# Altium schematic symbol library Capacitors.SchLib: 229 symbols (part 2 of 2)
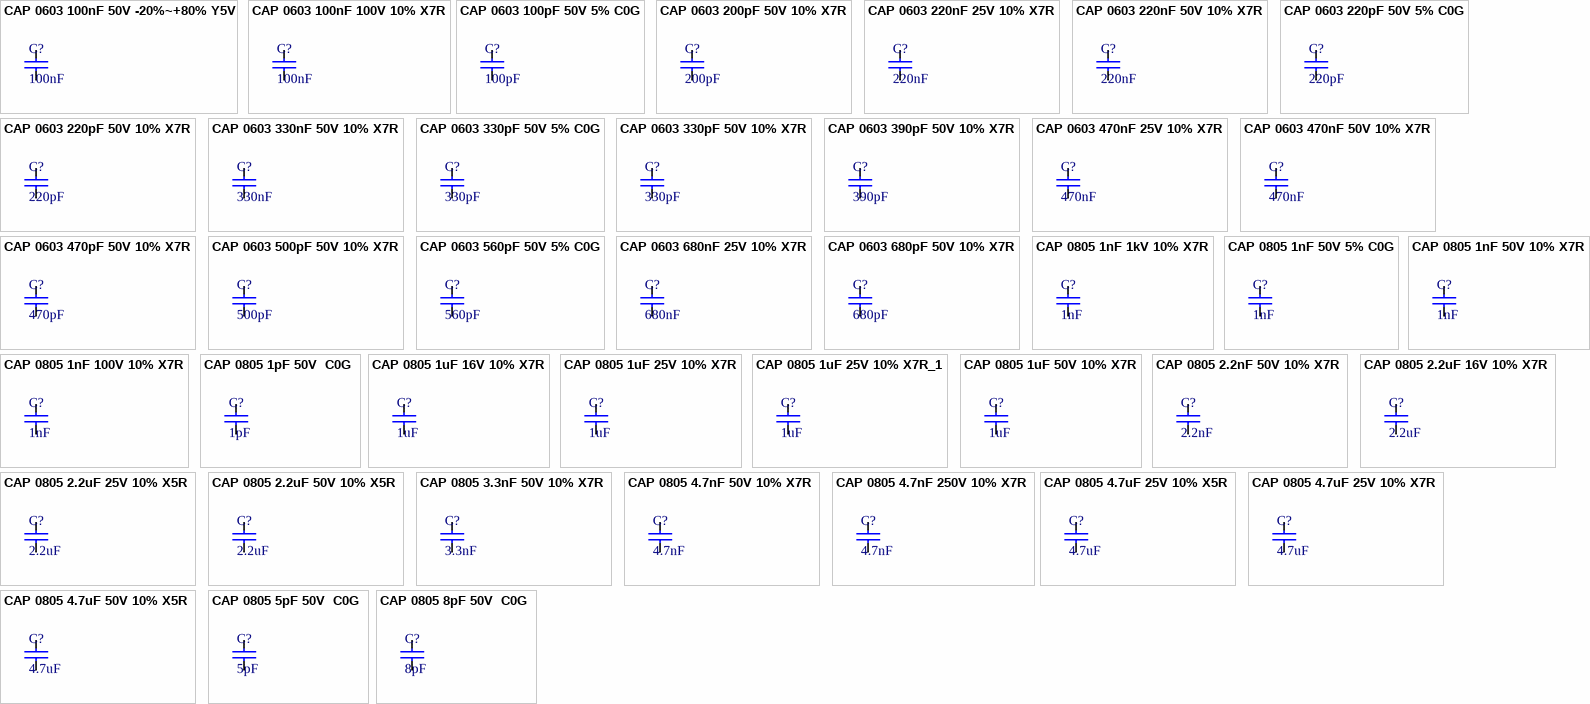
[diagram p6: symbols CAP 0603 100nF 50V -20%~+80% Y5V to CAP 0805 8pF 50V  C0G]

## CAP 0805 1uF 25V 10% X7R_1
designator C?, comment 1uF
1uF 10% 25V Ceramic Capacitor X7R 0805; Manufacturer: FOJAN; Manufacturer Part Number: FCC0805B105K250FT; Supplier: LCSC; Supplier Part Number: C7467040; Capacitance: 1uF; Tolerance: 10%; Voltage Rating: 25V; Temperature Coefficient: X7R
footprint CAP Ceramic SMD 0805
pins: 1, 2

## CAP 0805 1uF 50V 10% X7R
designator C?, comment 1uF
1uF 10% 50V Ceramic Capacitor X7R 0805; Manufacturer: FOJAN; Manufacturer Part Number: FCC0805B105K500FT; Supplier: LCSC; Supplier Part Number: C5137478; Capacitance: 1uF; Tolerance: 10%; Voltage Rating: 50V; Temperature Coefficient: X7R
footprint CAP Ceramic SMD 0805
pins: 1, 2

## CAP 0805 2.2nF 50V 10% X7R
designator C?, comment 2.2nF
2.2nF 10% 50V Ceramic Capacitor X7R 0805; Manufacturer: FOJAN; Manufacturer Part Number: FCC0805B222K500DT; Supplier: LCSC; Supplier Part Number: C5137580; Capacitance: 2.2nF; Tolerance: 10%; Voltage Rating: 50V; Temperature Coefficient: X7R
footprint CAP Ceramic SMD 0805
pins: 1, 2

## CAP 0805 2.2uF 16V 10% X7R
designator C?, comment 2.2uF
2.2uF 10% 16V Ceramic Capacitor X7R 0805; Manufacturer: FOJAN; Manufacturer Part Number: FCC0805B225K160FT; Supplier: LCSC; Supplier Part Number: C5137599; Capacitance: 2.2uF; Tolerance: 10%; Voltage Rating: 16V; Temperature Coefficient: X7R
footprint CAP Ceramic SMD 0805
pins: 1, 2

## CAP 0805 2.2uF 25V 10% X5R
designator C?, comment 2.2uF
2.2uF 10% 25V Ceramic Capacitor X5R 0805; Manufacturer: FOJAN; Manufacturer Part Number: FCC0805X225K250FT; Supplier: LCSC; Supplier Part Number: C5137595; Capacitance: 2.2uF; Tolerance: 10%; Voltage Rating: 25V; Temperature Coefficient: X5R
footprint CAP Ceramic SMD 0805
pins: 1, 2

## CAP 0805 2.2uF 50V 10% X5R
designator C?, comment 2.2uF
50V 2.2uF X5R 10% 0805 Ceramic Capacitors RoHS; Manufacturer: FOJAN; Manufacturer Part Number: FCC0805X225K500FT; Supplier: LCSC; Supplier Part Number: C7467053; Capacitance: 2.2uF; Tolerance: 10%; Voltage Rating: 50V; Temperature Coefficient: X5R
footprint CAP Ceramic SMD 0805
pins: 1, 2

## CAP 0805 3.3nF 50V 10% X7R
designator C?, comment 3.3nF
3.3nF 10% 50V Ceramic Capacitor X7R 0805; Manufacturer: FOJAN; Manufacturer Part Number: FCC0805B332K500DT; Supplier: LCSC; Supplier Part Number: C7467177; Capacitance: 3.3nF; Tolerance: 10%; Voltage Rating: 50V; Temperature Coefficient: X7R
footprint CAP Ceramic SMD 0805
pins: 1, 2

## CAP 0805 4.7nF 50V 10% X7R
designator C?, comment 4.7nF
4.7nF 10% 50V Ceramic Capacitor X7R 0805; Manufacturer: FOJAN; Manufacturer Part Number: FCC0805B472K500DT; Supplier: LCSC; Supplier Part Number: C5137634; Capacitance: 4.7nF; Tolerance: 10%; Voltage Rating: 50V; Temperature Coefficient: X7R
footprint CAP Ceramic SMD 0805
pins: 1, 2

## CAP 0805 4.7nF 250V 10% X7R
designator C?, comment 4.7nF
4.7nF 10% 250V Ceramic Capacitor X7R 0805; Manufacturer: FOJAN; Manufacturer Part Number: FCC0805B472K251DT; Supplier: LCSC; Supplier Part Number: C7419431; Capacitance: 4.7nF; Tolerance: 10%; Voltage Rating: 250V; Temperature Coefficient: X7R
footprint CAP Ceramic SMD 0805
pins: 1, 2

## CAP 0805 4.7uF 25V 10% X5R
designator C?, comment 4.7uF
4.7uF 10% 25V Ceramic Capacitor X5R 0805; Manufacturer: FOJAN; Manufacturer Part Number: FCC0805X475K250FT; Supplier: LCSC; Supplier Part Number: C5137571; Capacitance: 4.7uF; Tolerance: 10%; Voltage Rating: 25V; Temperature Coefficient: X5R
footprint CAP Ceramic SMD 0805
pins: 1, 2

## CAP 0805 4.7uF 25V 10% X7R
designator C?, comment 4.7uF
4.7uF 10% 25V Ceramic Capacitor X7R 0805; Manufacturer: FOJAN; Manufacturer Part Number: FCC0805B475K250FT; Supplier: LCSC; Supplier Part Number: C5137649; Capacitance: 4.7uF; Tolerance: 10%; Voltage Rating: 25V; Temperature Coefficient: X7R
footprint CAP Ceramic SMD 0805
pins: 1, 2

## CAP 0805 4.7uF 50V 10% X5R
designator C?, comment 4.7uF
4.7uF 10% 50V Ceramic Capacitor X5R 0805; Manufacturer: FOJAN; Manufacturer Part Number: FCC0805X475K500FT; Supplier: LCSC; Supplier Part Number: C7467127; Capacitance: 4.7uF; Tolerance: 10%; Voltage Rating: 50V; Temperature Coefficient: X5R
footprint CAP Ceramic SMD 0805
pins: 1, 2

## CAP 0805 5pF 50V  C0G
designator C?, comment 5pF
5pF 50V Ceramic Capacitor C0G 0805; Manufacturer: FOJAN; Manufacturer Part Number: FCC0805N5R0C500BT; Supplier: LCSC; Supplier Part Number: C7419433; Capacitance: 5pF; Voltage Rating: 50V; Temperature Coefficient: C0G
footprint CAP Ceramic SMD 0805
pins: 1, 2

## CAP 0805 8pF 50V  C0G
designator C?, comment 8pF
8pF 50V Ceramic Capacitor C0G 0805; Manufacturer: FOJAN; Manufacturer Part Number: FCC0805N8R0C500BT; Supplier: LCSC; Supplier Part Number: C7419434; Capacitance: 8pF; Voltage Rating: 50V; Temperature Coefficient: C0G
footprint CAP Ceramic SMD 0805
pins: 1, 2

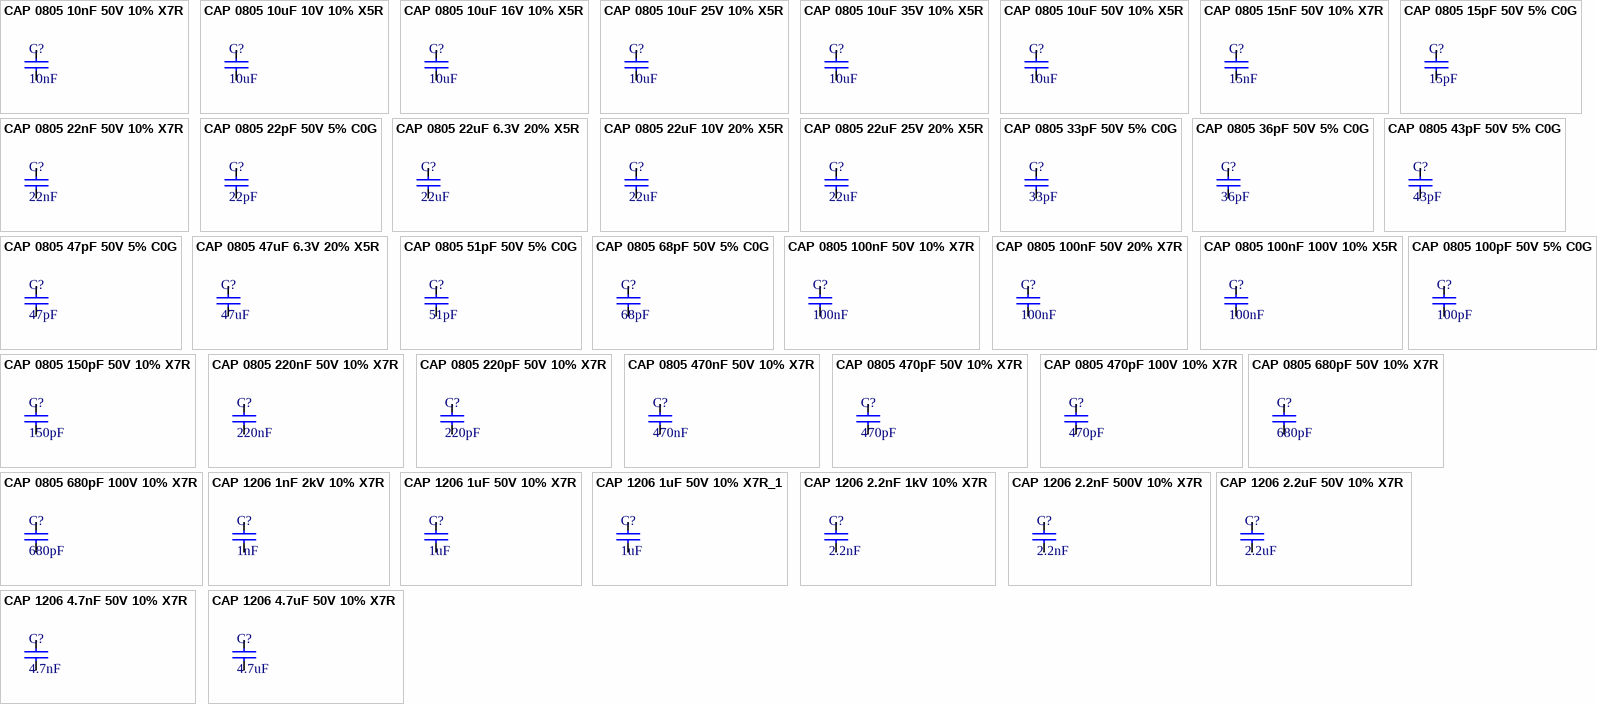
[diagram p4: symbols CAP 0805 10nF 50V 10% X7R to CAP 1206 4.7uF 50V 10% X7R]

## CAP 0805 10nF 50V 10% X7R
designator C?, comment 10nF
10nF 10% 50V Ceramic Capacitor X7R 0805; Manufacturer: FOJAN; Manufacturer Part Number: FCC0805B103K500DT; Supplier: LCSC; Supplier Part Number: C5137493; Capacitance: 10nF; Tolerance: 10%; Voltage Rating: 50V; Temperature Coefficient: X7R
footprint CAP Ceramic SMD 0805
pins: 1, 2

## CAP 0805 10uF 10V 10% X5R
designator C?, comment 10uF
10uF 10% 10V Ceramic Capacitor X5R 0805; Manufacturer: FOJAN; Manufacturer Part Number: FCC0805X106K100FT; Supplier: LCSC; Supplier Part Number: C5137471; Capacitance: 10uF; Tolerance: 10%; Voltage Rating: 10V; Temperature Coefficient: X5R
footprint CAP Ceramic SMD 0805
pins: 1, 2

## CAP 0805 10uF 16V 10% X5R
designator C?, comment 10uF
10uF 10% 16V Ceramic Capacitor X5R 0805; Manufacturer: FOJAN; Manufacturer Part Number: FCC0805X106K160FT; Supplier: LCSC; Supplier Part Number: C5137476; Capacitance: 10uF; Tolerance: 10%; Voltage Rating: 16V; Temperature Coefficient: X5R
footprint CAP Ceramic SMD 0805
pins: 1, 2

## CAP 0805 10uF 25V 10% X5R
designator C?, comment 10uF
10uF 10% 25V Ceramic Capacitor X5R 0805; Manufacturer: FOJAN; Manufacturer Part Number: FCC0805X106K250FT; Supplier: LCSC; Supplier Part Number: C5137488; Capacitance: 10uF; Tolerance: 10%; Voltage Rating: 25V; Temperature Coefficient: X5R
footprint CAP Ceramic SMD 0805
pins: 1, 2

## CAP 0805 10uF 35V 10% X5R
designator C?, comment 10uF
10uF 10% 35V Ceramic Capacitor X5R 0805; Manufacturer: FOJAN; Manufacturer Part Number: FCC0805X106K350FT; Supplier: LCSC; Supplier Part Number: C49010152; Capacitance: 10uF; Tolerance: 10%; Voltage Rating: 35V; Temperature Coefficient: X5R
footprint CAP Ceramic SMD 0805
pins: 1, 2

## CAP 0805 10uF 50V 10% X5R
designator C?, comment 10uF
10uF 10% 50V Ceramic Capacitor X5R 0805; Manufacturer: FOJAN; Manufacturer Part Number: FCC0805X106K500FT; Supplier: LCSC; Supplier Part Number: C46635915; Capacitance: 10uF; Tolerance: 10%; Voltage Rating: 50V; Temperature Coefficient: X5R
footprint CAP Ceramic SMD 0805
pins: 1, 2

## CAP 0805 15nF 50V 10% X7R
designator C?, comment 15nF
15nF 10% 50V Ceramic Capacitor X7R 0805; Manufacturer: FOJAN; Manufacturer Part Number: FCC0805B153K500DT; Supplier: LCSC; Supplier Part Number: C5137607; Capacitance: 15nF; Tolerance: 10%; Voltage Rating: 50V; Temperature Coefficient: X7R
footprint CAP Ceramic SMD 0805
pins: 1, 2

## CAP 0805 15pF 50V 5% C0G
designator C?, comment 15pF
15pF 5% 50V Ceramic Capacitor C0G 0805; Manufacturer: FOJAN; Manufacturer Part Number: FCC0805N150J500BT; Supplier: LCSC; Supplier Part Number: C7467172; Capacitance: 15pF; Tolerance: 5%; Voltage Rating: 50V; Temperature Coefficient: C0G
footprint CAP Ceramic SMD 0805
pins: 1, 2

## CAP 0805 22nF 50V 10% X7R
designator C?, comment 22nF
22nF 10% 50V Ceramic Capacitor X7R 0805; Manufacturer: FOJAN; Manufacturer Part Number: FCC0805B223K500DT; Supplier: LCSC; Supplier Part Number: C5137639; Capacitance: 22nF; Tolerance: 10%; Voltage Rating: 50V; Temperature Coefficient: X7R
footprint CAP Ceramic SMD 0805
pins: 1, 2

## CAP 0805 22pF 50V 5% C0G
designator C?, comment 22pF
22pF 5% 50V Ceramic Capacitor C0G 0805; Manufacturer: FOJAN; Manufacturer Part Number: FCC0805N220J500BT; Supplier: LCSC; Supplier Part Number: C5137614; Capacitance: 22pF; Tolerance: 5%; Voltage Rating: 50V; Temperature Coefficient: C0G
footprint CAP Ceramic SMD 0805
pins: 1, 2

## CAP 0805 22uF 6.3V 20% X5R
designator C?, comment 22uF
22uF 20% 6.3V Ceramic Capacitor X5R 0805; Manufacturer: FOJAN; Manufacturer Part Number: FCC0805X226M6R3FT; Supplier: LCSC; Supplier Part Number: C7467039; Capacitance: 22uF; Tolerance: 20%; Voltage Rating: 6.3V; Temperature Coefficient: X5R
footprint CAP Ceramic SMD 0805
pins: 1, 2

## CAP 0805 22uF 10V 20% X5R
designator C?, comment 22uF
22uF 20% 10V Ceramic Capacitor X5R 0805; Manufacturer: FOJAN; Manufacturer Part Number: FCC0805X226M100FT; Supplier: LCSC; Supplier Part Number: C5137600; Capacitance: 22uF; Tolerance: 20%; Voltage Rating: 10V; Temperature Coefficient: X5R
footprint CAP Ceramic SMD 0805
pins: 1, 2

## CAP 0805 22uF 25V 20% X5R
designator C?, comment 22uF
22uF 20% 25V Ceramic Capacitor X5R 0805; Manufacturer: FOJAN; Manufacturer Part Number: FCC0805X226M250FT; Supplier: LCSC; Supplier Part Number: C7419435; Capacitance: 22uF; Tolerance: 20%; Voltage Rating: 25V; Temperature Coefficient: X5R
footprint CAP Ceramic SMD 0805
pins: 1, 2

## CAP 0805 33pF 50V 5% C0G
designator C?, comment 33pF
50V 33pF C0G 5% 0805 Ceramic Capacitors RoHS; Manufacturer: FOJAN; Manufacturer Part Number: FCC0805N330J500BT; Supplier: LCSC; Supplier Part Number: C7419432; Capacitance: 33pF; Tolerance: 5%; Voltage Rating: 50V; Temperature Coefficient: C0G
footprint CAP Ceramic SMD 0805
pins: 1, 2

## CAP 0805 36pF 50V 5% C0G
designator C?, comment 36pF
36pF 5% 50V Ceramic Capacitor COG 0805; Manufacturer: FOJAN; Manufacturer Part Number: FCC0805N360J500BT; Temperature Coefficient: C0G; Supplier: LCSC; Supplier Part Number: C7496640; Capacitance: 36pF; Tolerance: 5%; Voltage Rating: 50V
footprint CAP Ceramic SMD 0805
pins: 1, 2

## CAP 0805 43pF 50V 5% C0G
designator C?, comment 43pF
43pF 5% 50V Ceramic Capacitor COG 0805; Manufacturer: FOJAN; Manufacturer Part Number: FCC0805N430J500BT; Temperature Coefficient: C0G; Supplier: LCSC; Supplier Part Number: C7496652; Capacitance: 43pF; Tolerance: 5%; Voltage Rating: 50V
footprint CAP Ceramic SMD 0805
pins: 1, 2

## CAP 0805 47pF 50V 5% C0G
designator C?, comment 47pF
47pF 5% 50V Ceramic Capacitor C0G 0805; Manufacturer: FOJAN; Manufacturer Part Number: FCC0805N470J500BT; Supplier: LCSC; Supplier Part Number: C5137640; Capacitance: 47pF; Tolerance: 5%; Voltage Rating: 50V; Temperature Coefficient: C0G
footprint CAP Ceramic SMD 0805
pins: 1, 2

## CAP 0805 47uF 6.3V 20% X5R
designator C?, comment 47uF
47uF 20% 6.3V Ceramic Capacitor X5R 0805; Manufacturer: FOJAN; Manufacturer Part Number: FCC0805X476M6R3FT; Supplier: LCSC; Supplier Part Number: C46635922; Capacitance: 47uF; Tolerance: 20%; Voltage Rating: 6.3V; Temperature Coefficient: X5R
footprint CAP Ceramic SMD 0805
pins: 1, 2

## CAP 0805 51pF 50V 5% C0G
designator C?, comment 51pF
51pF 5% 50V Ceramic Capacitor COG 0805; Manufacturer: FOJAN; Manufacturer Part Number: FCC0805N510J500BT; Temperature Coefficient: C0G; Supplier: LCSC; Supplier Part Number: C7496649; Capacitance: 51pF; Tolerance: 5%; Voltage Rating: 50V
footprint CAP Ceramic SMD 0805
pins: 1, 2

## CAP 0805 68pF 50V 5% C0G
designator C?, comment 68pF
68pF 5% 50V Ceramic Capacitor C0G 0805; Manufacturer: FOJAN; Manufacturer Part Number: FCC0805N680J500BT; Supplier: LCSC; Supplier Part Number: C7467128; Capacitance: 68pF; Tolerance: 5%; Voltage Rating: 50V; Temperature Coefficient: C0G
footprint CAP Ceramic SMD 0805
pins: 1, 2

## CAP 0805 100nF 50V 10% X7R
designator C?, comment 100nF
100nF 10% 50V Ceramic Capacitor X7R 0805; Manufacturer: FOJAN; Manufacturer Part Number: FCC0805B104K500DT; Supplier: LCSC; Supplier Part Number: C5137467; Capacitance: 100nF; Tolerance: 10%; Voltage Rating: 50V; Temperature Coefficient: X7R
footprint CAP Ceramic SMD 0805
pins: 1, 2

## CAP 0805 100nF 50V 20% X7R
designator C?, comment 100nF
50V 100nF X7R 20% 0805 Ceramic Capacitors RoHS; Manufacturer: FOJAN; Manufacturer Part Number: FCC0805B104M500DT; Supplier: LCSC; Supplier Part Number: C7419429; Capacitance: 100nF; Tolerance: 20%; Voltage Rating: 50V; Temperature Coefficient: X7R
footprint CAP Ceramic SMD 0805
pins: 1, 2

## CAP 0805 100nF 100V 10% X5R
designator C?, comment 100nF
100nF 10% 100V Ceramic Capacitor X5R 0805; Manufacturer: FOJAN; Manufacturer Part Number: FCC0805B104K101FT; Supplier: LCSC; Supplier Part Number: C46635920; Capacitance: 100nF; Tolerance: 10%; Voltage Rating: 100V; Temperature Coefficient: X5R
footprint CAP Ceramic SMD 0805
pins: 1, 2

## CAP 0805 100pF 50V 5% C0G
designator C?, comment 100pF
100pF 5% 50V Ceramic Capacitor C0G 0805; Manufacturer: FOJAN; Manufacturer Part Number: FCC0805N101J500BT; Supplier: LCSC; Supplier Part Number: C5137484; Capacitance: 100pF; Tolerance: 5%; Voltage Rating: 50V; Temperature Coefficient: C0G
footprint CAP Ceramic SMD 0805
pins: 1, 2

## CAP 0805 150pF 50V 10% X7R
designator C?, comment 150pF
150pF 10% 50V Ceramic Capacitor X7R 0805; Manufacturer: FOJAN; Manufacturer Part Number: FCC0805B151K500DT; Supplier: LCSC; Supplier Part Number: C7467159; Capacitance: 150pF; Tolerance: 10%; Voltage Rating: 50V; Temperature Coefficient: X7R
footprint CAP Ceramic SMD 0805
pins: 1, 2

## CAP 0805 220nF 50V 10% X7R
designator C?, comment 220nF
220nF 10% 50V Ceramic Capacitor X7R 0805; Manufacturer: FOJAN; Manufacturer Part Number: FCC0805B224K500FT; Supplier: LCSC; Supplier Part Number: C5137556; Capacitance: 220nF; Tolerance: 10%; Voltage Rating: 50V; Temperature Coefficient: X7R
footprint CAP Ceramic SMD 0805
pins: 1, 2

## CAP 0805 220pF 50V 10% X7R
designator C?, comment 220pF
220pF 10% 50V Ceramic Capacitor X7R 0805; Manufacturer: FOJAN; Manufacturer Part Number: FCC0805B221K500DT; Supplier: LCSC; Supplier Part Number: C5137612; Capacitance: 220pF; Tolerance: 10%; Voltage Rating: 50V; Temperature Coefficient: X7R
footprint CAP Ceramic SMD 0805
pins: 1, 2

## CAP 0805 470nF 50V 10% X7R
designator C?, comment 470nF
470nF 10% 50V Ceramic Capacitor X7R 0805; Manufacturer: FOJAN; Manufacturer Part Number: FCC0805B474K500FT; Supplier: LCSC; Supplier Part Number: C5137628; Capacitance: 470nF; Tolerance: 10%; Voltage Rating: 50V; Temperature Coefficient: X7R
footprint CAP Ceramic SMD 0805
pins: 1, 2

## CAP 0805 470pF 50V 10% X7R
designator C?, comment 470pF
470pF 10% 50V Ceramic Capacitor X7R 0805; Manufacturer: FOJAN; Manufacturer Part Number: FCC0805B471K500DT; Supplier: LCSC; Supplier Part Number: C5137598; Capacitance: 470pF; Tolerance: 10%; Voltage Rating: 50V; Temperature Coefficient: X7R
footprint CAP Ceramic SMD 0805
pins: 1, 2

## CAP 0805 470pF 100V 10% X7R
designator C?, comment 470pF
470pF 10% 100V Ceramic Capacitor X7R 0805; Manufacturer: FOJAN; Manufacturer Part Number: FCC0805B471K101DT; Supplier: LCSC; Supplier Part Number: C7419430; Capacitance: 470pF; Tolerance: 10%; Voltage Rating: 100V; Temperature Coefficient: X7R
footprint CAP Ceramic SMD 0805
pins: 1, 2

## CAP 0805 680pF 50V 10% X7R
designator C?, comment 680pF
680pF 10% 50V Ceramic Capacitor X7R 0805; Manufacturer: FOJAN; Manufacturer Part Number: FCC0805B681K500DT; Supplier: LCSC; Supplier Part Number: C5137606; Capacitance: 680pF; Tolerance: 10%; Voltage Rating: 50V; Temperature Coefficient: X7R
footprint CAP Ceramic SMD 0805
pins: 1, 2

## CAP 0805 680pF 100V 10% X7R
designator C?, comment 680pF
680pF 10% 100V Ceramic Capacitor X7R 0805; Manufacturer: FOJAN; Manufacturer Part Number: FCC0805B681K101DT; Supplier: LCSC; Supplier Part Number: C7467187; Capacitance: 680pF; Tolerance: 10%; Voltage Rating: 100V; Temperature Coefficient: X7R
footprint CAP Ceramic SMD 0805
pins: 1, 2

## CAP 1206 1nF 2kV 10% X7R
designator C?, comment 1nF
1nF 10% 2kV Ceramic Capacitor X7R 1206; Manufacturer: FOJAN; Manufacturer Part Number: FCC1206B102K202FT; Supplier: LCSC; Supplier Part Number: C5137495; Capacitance: 1nF; Tolerance: 10%; Voltage Rating: 2kV; Temperature Coefficient: X7R
footprint CAP Ceramic SMD 1206
pins: 1, 2

## CAP 1206 1uF 50V 10% X7R
designator C?, comment 1uF
1uF 10% 50V Ceramic Capacitor X7R 1206; Manufacturer: FOJAN; Manufacturer Part Number: FCC1206B105K500HT; Supplier: LCSC; Supplier Part Number: C7419437; Capacitance: 1uF; Tolerance: 10%; Voltage Rating: 50V; Temperature Coefficient: X7R
footprint CAP Ceramic SMD 1206
pins: 1, 2

## CAP 1206 1uF 50V 10% X7R_1
designator C?, comment 1uF
1uF 10% 50V Ceramic Capacitor X7R 1206; Manufacturer: FOJAN; Manufacturer Part Number: FCC1206B105K500FT; Supplier: LCSC; Supplier Part Number: C5137603; Capacitance: 1uF; Tolerance: 10%; Voltage Rating: 50V; Temperature Coefficient: X7R
footprint CAP Ceramic SMD 1206
pins: 1, 2

## CAP 1206 2.2nF 1kV 10% X7R
designator C?, comment 2.2nF
2.2nF 10% 1kV Ceramic Capacitor X7R 1206; Manufacturer: FOJAN; Manufacturer Part Number: FCC1206B222K102FT; Supplier: LCSC; Supplier Part Number: C5137642; Capacitance: 2.2nF; Tolerance: 10%; Voltage Rating: 1kV; Temperature Coefficient: X7R
footprint CAP Ceramic SMD 1206
pins: 1, 2

## CAP 1206 2.2nF 500V 10% X7R
designator C?, comment 2.2nF
2.2nF 10% 500V Ceramic Capacitor X7R 1206; Manufacturer: FOJAN; Manufacturer Part Number: FCC1206B222K501DT; Supplier: LCSC; Supplier Part Number: C7467129; Capacitance: 2.2nF; Tolerance: 10%; Voltage Rating: 500V; Temperature Coefficient: X7R
footprint CAP Ceramic SMD 1206
pins: 1, 2

## CAP 1206 2.2uF 50V 10% X7R
designator C?, comment 2.2uF
2.2uF 10% 50V Ceramic Capacitor X7R 1206; Manufacturer: FOJAN; Manufacturer Part Number: FCC1206B225K500FT; Supplier: LCSC; Supplier Part Number: C5137587; Capacitance: 2.2uF; Tolerance: 10%; Voltage Rating: 50V; Temperature Coefficient: X7R
footprint CAP Ceramic SMD 1206
pins: 1, 2

## CAP 1206 4.7nF 50V 10% X7R
designator C?, comment 4.7nF
4.7nF 10% 50V Ceramic Capacitor X7R 1206; Manufacturer: FOJAN; Manufacturer Part Number: FCC1206B472K500DT; Supplier: LCSC; Supplier Part Number: C7467173; Capacitance: 4.7nF; Tolerance: 10%; Voltage Rating: 50V; Temperature Coefficient: X7R
footprint CAP Ceramic SMD 1206
pins: 1, 2

## CAP 1206 4.7uF 50V 10% X7R
designator C?, comment 4.7uF
4.7uF 10% 50V Ceramic Capacitor X7R 1206; Manufacturer: FOJAN; Manufacturer Part Number: FCC1206B475K500HT; Supplier: LCSC; Supplier Part Number: C7467047; Capacitance: 4.7uF; Tolerance: 10%; Voltage Rating: 50V; Temperature Coefficient: X7R
footprint CAP Ceramic SMD 1206
pins: 1, 2

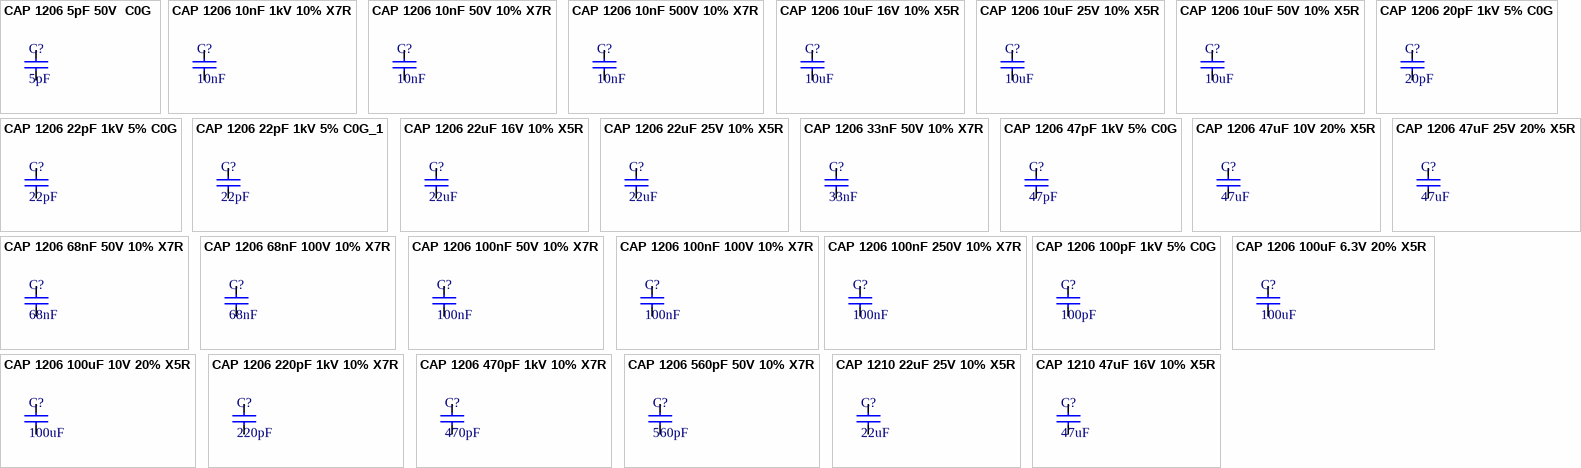
[diagram p5: symbols CAP 1206 5pF 50V  C0G to CAP 1210 47uF 16V 10% X5R]

## CAP 1206 5pF 50V  C0G
designator C?, comment 5pF
5pF 50V Ceramic Capacitor C0G 1206; Manufacturer: FOJAN; Manufacturer Part Number: FCC1206N5R0D500DT; Supplier: LCSC; Supplier Part Number: C7496647; Capacitance: 5pF; Voltage Rating: 50V; Temperature Coefficient: C0G
footprint CAP Ceramic SMD 1206
pins: 1, 2

## CAP 1206 10nF 1kV 10% X7R
designator C?, comment 10nF
1kV 10nF X7R 10% 1206 Ceramic Capacitors RoHS; Manufacturer: FOJAN; Manufacturer Part Number: FCC1206B103K102FT; Supplier: LCSC; Supplier Part Number: C7419436; Capacitance: 10nF; Tolerance: 10%; Voltage Rating: 1kV; Temperature Coefficient: X7R
footprint CAP Ceramic SMD 1206
pins: 1, 2

## CAP 1206 10nF 50V 10% X7R
designator C?, comment 10nF
10nF 10% 50V Ceramic Capacitor X7R 1206; Manufacturer: FOJAN; Manufacturer Part Number: FCC1206B103K500DT; Supplier: LCSC; Supplier Part Number: C5137623; Capacitance: 10nF; Tolerance: 10%; Voltage Rating: 50V; Temperature Coefficient: X7R
footprint CAP Ceramic SMD 1206
pins: 1, 2

## CAP 1206 10nF 500V 10% X7R
designator C?, comment 10nF
10nF 10% 500V Ceramic Capacitor X7R 1206; Manufacturer: FOJAN; Manufacturer Part Number: FCC1206B103K501DT; Supplier: LCSC; Supplier Part Number: C7467042; Capacitance: 10nF; Tolerance: 10%; Voltage Rating: 500V; Temperature Coefficient: X7R
footprint CAP Ceramic SMD 1206
pins: 1, 2

## CAP 1206 10uF 16V 10% X5R
designator C?, comment 10uF
10uF 10% 16V Ceramic Capacitor X5R 1206; Manufacturer: FOJAN; Manufacturer Part Number: FCC1206X106K160HT; Supplier: LCSC; Supplier Part Number: C5137647; Capacitance: 10uF; Tolerance: 10%; Voltage Rating: 16V; Temperature Coefficient: X5R
footprint CAP Ceramic SMD 1206
pins: 1, 2

## CAP 1206 10uF 25V 10% X5R
designator C?, comment 10uF
10uF 10% 25V Ceramic Capacitor X5R 1206; Manufacturer: FOJAN; Manufacturer Part Number: FCC1206X106K250HT; Supplier: LCSC; Supplier Part Number: C7467109; Capacitance: 10uF; Tolerance: 10%; Voltage Rating: 25V; Temperature Coefficient: X5R
footprint CAP Ceramic SMD 1206
pins: 1, 2

## CAP 1206 10uF 50V 10% X5R
designator C?, comment 10uF
10uF 10% 50V Ceramic Capacitor X5R 1206; Manufacturer: FOJAN; Manufacturer Part Number: FCC1206X106K500HT; Supplier: LCSC; Supplier Part Number: C7467044; Capacitance: 10uF; Tolerance: 10%; Voltage Rating: 50V; Temperature Coefficient: X5R
footprint CAP Ceramic SMD 1206
pins: 1, 2

## CAP 1206 20pF 1kV 5% C0G
designator C?, comment 20pF
20pF 5% 1kV Ceramic Capacitor C0G 1206; Manufacturer: FOJAN; Manufacturer Part Number: FCC1206N200J102DT; Supplier: LCSC; Supplier Part Number: C5137576; Capacitance: 20pF; Tolerance: 5%; Voltage Rating: 1kV; Temperature Coefficient: C0G
footprint CAP Ceramic SMD 1206
pins: 1, 2

## CAP 1206 22pF 1kV 5% C0G
designator C?, comment 22pF
22pF 5% 1kV Ceramic Capacitor C0G 1206; Manufacturer: FOJAN; Manufacturer Part Number: FCC1206N220J102DT; Supplier: LCSC; Supplier Part Number: C5137630; Capacitance: 22pF; Tolerance: 5%; Voltage Rating: 1kV; Temperature Coefficient: C0G
footprint CAP Ceramic SMD 1206
pins: 1, 2

## CAP 1206 22pF 1kV 5% C0G_1
designator C?, comment 22pF
22pF 5% 1kV Ceramic Capacitor C0G 1206; Manufacturer: FOJAN; Manufacturer Part Number: FCC1206N220J102FT; Supplier: LCSC; Supplier Part Number: C7467161; Capacitance: 22pF; Tolerance: 5%; Voltage Rating: 1kV; Temperature Coefficient: C0G
footprint CAP Ceramic SMD 1206
pins: 1, 2

## CAP 1206 22uF 16V 10% X5R
designator C?, comment 22uF
22uF 10% 16V Ceramic Capacitor X5R 1206; Manufacturer: FOJAN; Manufacturer Part Number: FCC1206X226K160HT; Supplier: LCSC; Supplier Part Number: C5137635; Capacitance: 22uF; Tolerance: 10%; Voltage Rating: 16V; Temperature Coefficient: X5R
footprint CAP Ceramic SMD 1206
pins: 1, 2

## CAP 1206 22uF 25V 10% X5R
designator C?, comment 22uF
22uF 10% 25V Ceramic Capacitor X5R 1206; Manufacturer: FOJAN; Manufacturer Part Number: FCC1206X226K250HT; Supplier: LCSC; Supplier Part Number: C7419438; Capacitance: 22uF; Tolerance: 10%; Voltage Rating: 25V; Temperature Coefficient: X5R
footprint CAP Ceramic SMD 1206
pins: 1, 2

## CAP 1206 33nF 50V 10% X7R
designator C?, comment 33nF
33nF 10% 50V Ceramic Capacitor X7R 1206; Manufacturer: FOJAN; Manufacturer Part Number: FCC1206B333K500DT; Supplier: LCSC; Supplier Part Number: C7467160; Capacitance: 33nF; Tolerance: 10%; Voltage Rating: 50V; Temperature Coefficient: X7R
footprint CAP Ceramic SMD 1206
pins: 1, 2

## CAP 1206 47pF 1kV 5% C0G
designator C?, comment 47pF
47pF 5% 1kV Ceramic Capacitor C0G 1206; Manufacturer: FOJAN; Manufacturer Part Number: FCC1206N470J102DT; Supplier: LCSC; Supplier Part Number: C5137553; Capacitance: 47pF; Tolerance: 5%; Voltage Rating: 1kV; Temperature Coefficient: C0G
footprint CAP Ceramic SMD 1206
pins: 1, 2

## CAP 1206 47uF 10V 20% X5R
designator C?, comment 47uF
47uF 20% 10V Ceramic Capacitor X5R 1206; Manufacturer: FOJAN; Manufacturer Part Number: FCC1206X476M100HT; Supplier: LCSC; Supplier Part Number: C7467231; Capacitance: 47uF; Tolerance: 20%; Voltage Rating: 10V; Temperature Coefficient: X5R
footprint CAP Ceramic SMD 1206
pins: 1, 2

## CAP 1206 47uF 25V 20% X5R
designator C?, comment 47uF
47uF 20% 25V Ceramic Capacitor X5R 1206; Manufacturer: FOJAN; Manufacturer Part Number: FCC1206X476M250HT; Supplier: LCSC; Supplier Part Number: C46635926; Capacitance: 47uF; Tolerance: 20%; Voltage Rating: 25V; Temperature Coefficient: X5R
footprint CAP Ceramic SMD 1206
pins: 1, 2

## CAP 1206 68nF 50V 10% X7R
designator C?, comment 68nF
68nF 10% 50V Ceramic Capacitor X7R 1206; Manufacturer: FOJAN; Manufacturer Part Number: FCC1206B683K500DT; Supplier: LCSC; Supplier Part Number: C7496651; Capacitance: 68nF; Tolerance: 10%; Voltage Rating: 50V; Temperature Coefficient: X7R
footprint CAP Ceramic SMD 1206
pins: 1, 2

## CAP 1206 68nF 100V 10% X7R
designator C?, comment 68nF
68nF 10% 100V Ceramic Capacitor X7R 1206; Manufacturer: FOJAN; Manufacturer Part Number: FCC1206B683K101DT; Supplier: LCSC; Supplier Part Number: C7496643; Capacitance: 68nF; Tolerance: 10%; Voltage Rating: 100V; Temperature Coefficient: X7R
footprint CAP Ceramic SMD 1206
pins: 1, 2

## CAP 1206 100nF 50V 10% X7R
designator C?, comment 100nF
100nF 10% 50V Ceramic Capacitor X7R 1206; Manufacturer: FOJAN; Manufacturer Part Number: FCC1206B104K500DT; Supplier: LCSC; Supplier Part Number: C5137631; Capacitance: 100nF; Tolerance: 10%; Voltage Rating: 50V; Temperature Coefficient: X7R
footprint CAP Ceramic SMD 1206
pins: 1, 2

## CAP 1206 100nF 100V 10% X7R
designator C?, comment 100nF
100nF 10% 100V Ceramic Capacitor X7R 1206; Manufacturer: FOJAN; Manufacturer Part Number: FCC1206B104K101FT; Supplier: LCSC; Supplier Part Number: C5137650; Capacitance: 100nF; Tolerance: 10%; Voltage Rating: 100V; Temperature Coefficient: X7R
footprint CAP Ceramic SMD 1206
pins: 1, 2

## CAP 1206 100nF 250V 10% X7R
designator C?, comment 100nF
100nF 10% 250V Ceramic Capacitor X7R 1206; Manufacturer: FOJAN; Manufacturer Part Number: FCC1206B104K251HT; Supplier: LCSC; Supplier Part Number: C5137643; Capacitance: 100nF; Tolerance: 10%; Voltage Rating: 250V; Temperature Coefficient: X7R
footprint CAP Ceramic SMD 1206
pins: 1, 2

## CAP 1206 100pF 1kV 5% C0G
designator C?, comment 100pF
100pF 5% 1kV Ceramic Capacitor C0G 1206; Manufacturer: FOJAN; Manufacturer Part Number: FCC1206N101J102DT; Supplier: LCSC; Supplier Part Number: C5137646; Capacitance: 100pF; Tolerance: 5%; Voltage Rating: 1kV; Temperature Coefficient: C0G
footprint CAP Ceramic SMD 1206
pins: 1, 2

## CAP 1206 100uF 6.3V 20% X5R
designator C?, comment 100uF
100uF 20% 6.3V Ceramic Capacitor X5R 1206; Manufacturer: FOJAN; Manufacturer Part Number: FCC1206X107M6R3HT; Supplier: LCSC; Supplier Part Number: C46635914; Capacitance: 100uF; Tolerance: 20%; Voltage Rating: 6.3V; Temperature Coefficient: X5R
footprint CAP Ceramic SMD 1206
pins: 1, 2

## CAP 1206 100uF 10V 20% X5R
designator C?, comment 100uF
100uF 20% 10V Ceramic Capacitor X5R 1206; Manufacturer: FOJAN; Manufacturer Part Number: FCC1206X107M100HT; Supplier: LCSC; Supplier Part Number: C46635924; Capacitance: 100uF; Tolerance: 20%; Voltage Rating: 10V; Temperature Coefficient: X5R
footprint CAP Ceramic SMD 1206
pins: 1, 2

## CAP 1206 220pF 1kV 10% X7R
designator C?, comment 220pF
220pF 10% 1kV Ceramic Capacitor X7R 1206; Manufacturer: FOJAN; Manufacturer Part Number: FCC1206B221K102FT; Supplier: LCSC; Supplier Part Number: C5137559; Capacitance: 220pF; Tolerance: 10%; Voltage Rating: 1kV; Temperature Coefficient: X7R
footprint CAP Ceramic SMD 1206
pins: 1, 2

## CAP 1206 470pF 1kV 10% X7R
designator C?, comment 470pF
470pF 10% 1kV Ceramic Capacitor X7R 1206; Manufacturer: FOJAN; Manufacturer Part Number: FCC1206B471K102DT; Supplier: LCSC; Supplier Part Number: C5137622; Capacitance: 470pF; Tolerance: 10%; Voltage Rating: 1kV; Temperature Coefficient: X7R
footprint CAP Ceramic SMD 1206
pins: 1, 2

## CAP 1206 560pF 50V 10% X7R
designator C?, comment 560pF
560pF 10% 50V Ceramic Capacitor X7R 1206; Manufacturer: FOJAN; Manufacturer Part Number: FCC1206B561K500DT; Supplier: LCSC; Supplier Part Number: C7496648; Capacitance: 560pF; Tolerance: 10%; Voltage Rating: 50V; Temperature Coefficient: X7R
footprint CAP Ceramic SMD 1206
pins: 1, 2

## CAP 1210 22uF 25V 10% X5R
designator C?, comment 22uF
22uF 10% 25V Ceramic Capacitor X5R 1210; Manufacturer: FOJAN; Manufacturer Part Number: FCC1210X226K250MT; Supplier: LCSC; Supplier Part Number: C7419439; Capacitance: 22uF; Tolerance: 10%; Voltage Rating: 25V; Temperature Coefficient: X5R
footprint CAP Ceramic SMD 1210
pins: 1, 2

## CAP 1210 47uF 16V 10% X5R
designator C?, comment 47uF
47uF 10% 16V Ceramic Capacitor X5R 1210; Manufacturer: FOJAN; Manufacturer Part Number: FCC1210X476K160MT; Supplier: LCSC; Supplier Part Number: C46635928; Capacitance: 47uF; Tolerance: 10%; Voltage Rating: 16V; Temperature Coefficient: X5R
footprint CAP Ceramic SMD 1210
pins: 1, 2